# Altium footprint library TB9051FTG.PcbLib: 1 footprints
Each footprint in its own frame and in the unit in brackets; x right, y up, seen from the top. Pads: shape width x height; smd on the part's side, far side on the other; paste and mask are expansions set on the pad; w line width, h text height; cw(c..) or ccw(c..) is an arc to the next point about the centre after c.
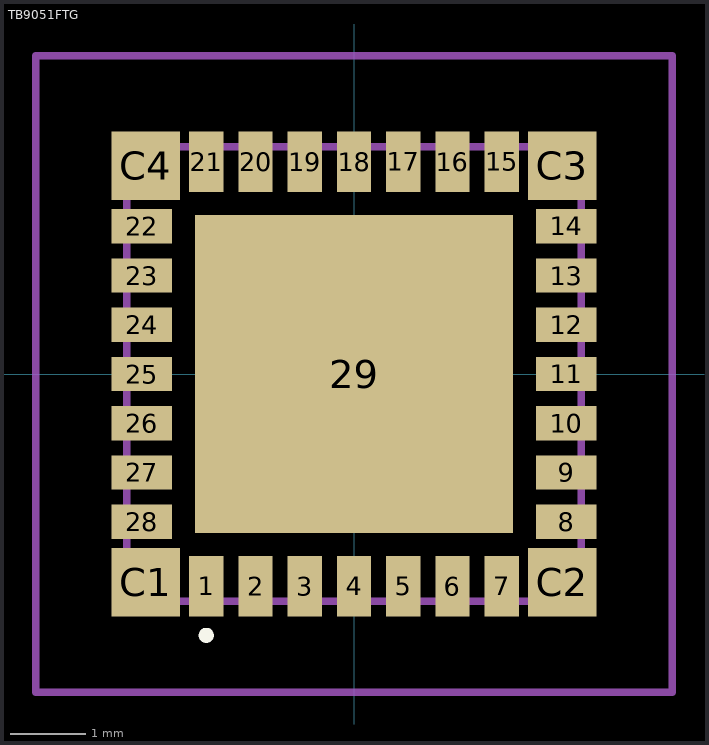
[diagram p0: the footprint, top view; thin cyan lines are the x and y axes]

## TB9051FTG [mm]
pads (33):
  rect 0.45x0.8 smd: 1(-1.95,-2.8) 2(-1.3,-2.8) 3(-0.65,-2.8) 4(0,-2.8) 5(0.65,-2.8) 6(1.3,-2.8) 7(1.95,-2.8) 15(1.95,2.8) 16(1.3,2.8) 17(0.65,2.8) 18(0,2.8) 19(-0.65,2.8) 20(-1.3,2.8) 21(-1.95,2.8)
  rect 0.8x0.45 smd: 8(2.8,-1.95) 9(2.8,-1.3) 10(2.8,-0.65) 11(2.8,0) 12(2.8,0.65) 13(2.8,1.3) 14(2.8,1.95) 22(-2.8,1.95) 23(-2.8,1.3) 24(-2.8,0.65) 25(-2.8,0) 26(-2.8,-0.65) 27(-2.8,-1.3) 28(-2.8,-1.95)
  rect 4.2x4.2 smd: 29(0,0)
  rect 0.9x0.9 smd: C1(-2.75,-2.75) C2(2.75,-2.75) C3(2.75,2.75) C4(-2.75,2.75)
Top Overlay:
  lines w0.1: -1.95,-3.5 -1.95,-3.5 ; -1.95,-3.5 ccw(c-1.95,-3.45) -1.95,-3.4 ; -1.95,-3.5 cw(c-1.95,-3.45) -1.95,-3.4 ; -1.95,-3.4 -1.95,-3.4
Mechanical 15:
  lines w0.1: -3,-3 3,-3 3,3 -3,3 -3,-3
Mechanical 20:
  lines w0.1: -4.2,-4.2 4.2,-4.2 4.2,4.2 -4.2,4.2 -4.2,-4.2